# EAGLE library part MICRO-USB-AB (library Harrington-Connectors)
Micro USB AB Molex
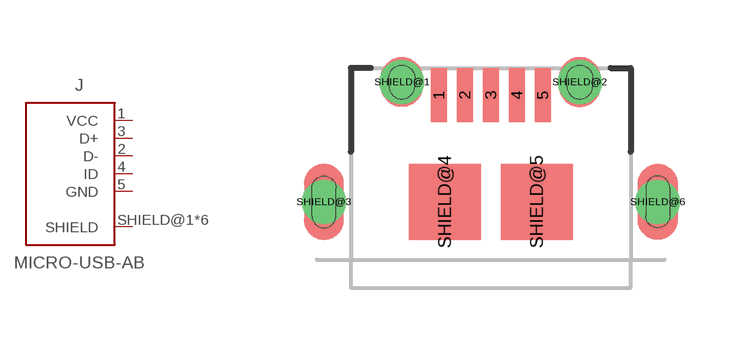
[diagram p0: symbol with the pads of 47589-0001; footprint 47589-0001]

Designator prefix J

## MICRO-USB-AB  [47589-0001]
1  VCC  pwr
2  D-  out
3  D+  in
4  ID  nc
5  GND  pwr
SHIELD@1  SHIELD  pwr
SHIELD@2  SHIELD  pwr
SHIELD@3  SHIELD  pwr
SHIELD@4  SHIELD  pwr
SHIELD@5  SHIELD  pwr
SHIELD@6  SHIELD  pwr

## Footprint 47589-0001 (pad centres in mm)
smd 0.4 x 1.35: 1 -1.3,2.675; 2 -0.65,2.675; 3 0,2.675; 4 0.65,2.675; 5 1.3,2.675
drill 0.6 pad 0.9: SHIELD@1 -2.225,3; SHIELD@2 2.225,3; SHIELD@3 -4.175,0; SHIELD@6 4.175,0
smd 1.8 x 1.9: SHIELD@4 -1.15,0; SHIELD@5 1.15,0